# Altium schematic symbol library Voltage Taps V0.1.SchLib: 1 symbol
Pins are listed as number, name and electrical type; pins without a type are passive.

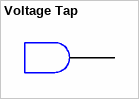
[diagram p0: symbol Voltage Tap]

## Voltage Tap
designator J?  (value not drawn)  (no BOM)
footprint Voltage Tap
pins: 1